# Altium footprint library Flex-strap-340x105-cutout.PcbLib: 1 footprints
Each footprint in its own frame and in the unit in brackets; x right, y up, seen from the top. Pads: shape width x height; smd on the part's side, far side on the other; paste and mask are expansions set on the pad; w line width, h text height; cw(c..) or ccw(c..) is an arc to the next point about the centre after c.
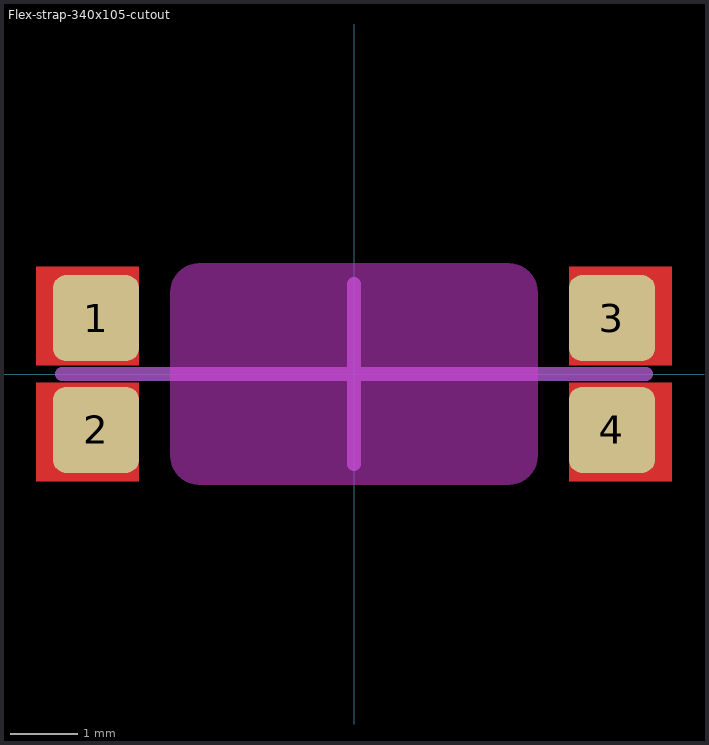
[diagram p0: the footprint, top view; thin cyan lines are the x and y axes]

## Flex-strap-340x105-cutout [mil] "with cutout"
pads (4):
  rrect30% 50x50 smd paste-4 mask+0: 1(-150,32.5) 2(-150,-32.5) 3(150,32.5) 4(150,-32.5)
Top Layer:
  rectangle: 125,5 185,62.5
  rectangle: 125,-62.5 185,-5
  rectangle: -185,5 -125,62.5
  rectangle: -185,-62.5 -125,-5
Keep-Out Layer:
  board cut-out: -105.29,-47.5 -104.13,-53.35 -100.81,-58.31 -95.85,-61.63 -90,-62.79 -90,-62.5 90,-62.79 95.85,-61.63 100.81,-58.31 104.13,-53.35 105.29,-47.5 105,-47.5 105.29,47.5 104.13,53.35 100.81,58.31 95.85,61.63 90,62.79 90,62.5 -90,62.79 -95.85,61.63 -100.81,58.31 -104.13,53.35 -105.29,47.5 -105,47.5
  lines w3.94: -105,-47.5 ccw(c-90,-47.5) -90,-62.5 90,-62.5 ccw(c90,-47.5) 105,-47.5 105,2.5 105,47.5 ccw(c90,47.5) 90,62.5 -90,62.5 ccw(c-90,47.5) -105,47.5 -105,-47.5
Mechanical 1:
  lines w7.87: -170,0 170,0 ; 0,-52.5 0,52.5
3D body: height 10, standoff 0, extent -170,-52.5 170,52.5